# Altium footprint library Portier.PcbLib: 23 footprints (part 1 of 2)
Each footprint in its own frame and in the unit in brackets; x right, y up, seen from the top. Pads: shape width x height; smd on the part's side, far side on the other; paste and mask are expansions set on the pad; w line width, h text height; cw(c..) or ccw(c..) is an arc to the next point about the centre after c.
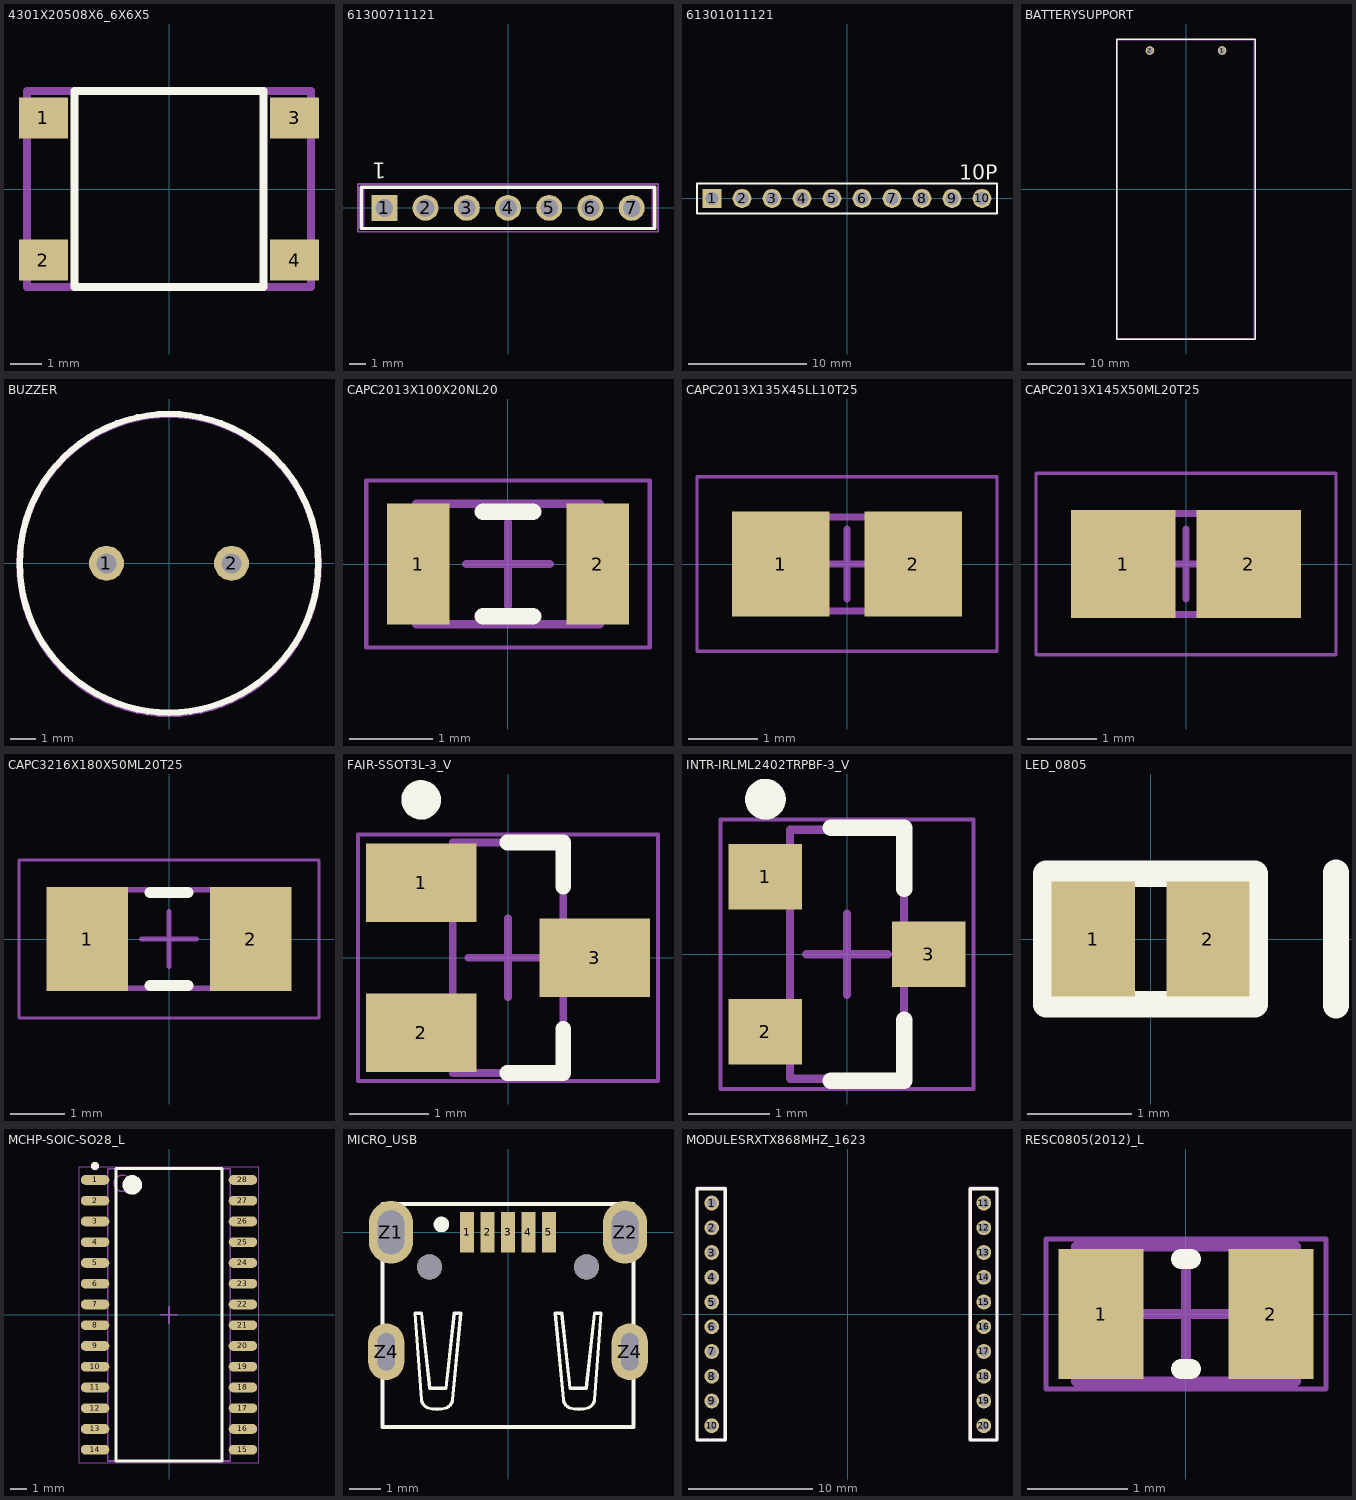
[diagram p0: the footprints below, top view; thin cyan lines are the x and y axes]

## 4301X20508X6_6X6X5 [mm] "6x6mm Tact Switch, SMD version"
height 5
pads (4):
  rect 1.55x1.3 smd: 1(-3.975,2.25) 2(-3.975,-2.25) 3(3.975,2.25) 4(3.975,-2.25)
Top Overlay:
  lines w0.254: -3,-3.1 -3,3.1 3,3.1 3,-3.1 -3,-3.1
Mechanical 13:
  lines w0.254: -4.5,-3.1 4.5,-3.1 4.5,3.1 -4.5,3.1 -4.5,-3.1
3D body "4301x20508x6.stp": height 5.02, standoff 0.02, extent -4.5,-3.1 4.5,3.1

## 61300711121 [mm] "Pin Header, pitch 2.54 mm, THT, Vertical, single row, 7p"
height 8.54
pads (7):
  rect 1.6x1.6 hole 1.1: 1(-7.62,0)
  round 1.6 hole 1.1: 2(-5.08,0) 3(-2.54,0) 4(0,0) 5(2.54,0) 6(5.08,0) 7(7.62,0)
Top Overlay:
  lines w0.2: -9.04,-1.27 -9.04,1.27 9.04,1.27 9.04,-1.27 -9.04,-1.27
  text "1" at -7.493,2.794 h1
Mechanical 11:
  lines w0.1: -8.89,-1.27 8.89,-1.27 8.89,1.27 -8.89,1.27 -8.89,-1.27
Mechanical 13:
  lines w0.1: -9.04,-1.27 -9.04,1.27 9.04,1.27 9.04,-1.27 -9.04,-1.27
Mechanical 15:
  lines w0.1: -0.5,0 0.5,0 ; 0,-0.5 0,0.5 ; -9.24,-1.47 -9.24,1.47 9.24,1.47 9.24,-1.47 -9.24,-1.47
3D body "61300711121.stp": height 8.57, standoff -2.97, extent -8.89,-1.27 8.89,1.27

## 61301011121 [mm] "10 pins, 1 row, straight, gold plating"
height 8.54
pads (10):
  rect 1.6x1.6 hole 1.1: 1(-11.43,0)
  round 1.6 hole 1.1: 2(-8.89,0) 3(-6.35,0) 4(-3.81,0) 5(-1.27,0) 6(1.27,0) 7(3.81,0) 8(6.35,0) 9(8.89,0) 10(11.43,0)
Top Overlay:
  lines w0.2: -12.7,-1.27 -12.7,1.27 12.7,1.27 12.7,-1.27 -12.7,-1.27
  text "10P" at 9.5,1.6 h1.27
3D body "61301011121.stp": height 8.57, standoff -2.97, extent -12.7,-1.27 12.7,1.27

## BATTERYSUPPORT [mm] "Battery Support 2 x 1.5V type AAA"
height 3.5
pads (2):
  round 1.5 hole 1: 1(6.25,24) 2(-6.25,24)
Top Overlay:
  lines w0.254: -12,-26 12,-26 12,26 -12,26 -12,-26
Mechanical 13:
  lines w0.2: -11.938,-25.908 -11.938,25.908 11.811,25.908 11.811,-25.908 -11.938,-25.908
3D body: height 13, standoff 0, extent -12,-26 12,25.908

## BUZZER [mm] "Buzzer d_12mm"
height 3.5
pads (2):
  round 1.4 hole 0.8: 1(-2.5,0) 2(2.5,0)
Top Overlay:
  circle w0.254: c0,0 r5.969
Mechanical 13:
  circle w0.254: c0,-0.047 r5.978
3D body: height 6.5, standoff 0.5, extent -5.969,-5.715 5.969,5.715

## CAPC2013X100X20NL20 [mm] "Chip Capacitor, 2-Leads, Body 2.2x1.45mm, IPC Medium Density"
height 1
pads (2):
  rect 0.75x1.45 smd: 1(-1.075,0) 2(1.075,0)
Top Overlay:
  lines w0.2: -0.3,-0.625 0.3,-0.625 ; -0.3,0.625 0.3,0.625
Mechanical 13:
  lines w0.1: -1.1,-0.725 -1.1,0.725 1.1,0.725 1.1,-0.725 -1.1,-0.725
Mechanical 15:
  lines w0.05: -1.7,-1 -1.7,1 1.7,1 1.7,-1 -1.7,-1
  lines w0.1: -0.5,0 0.5,0 ; 0,-0.5 0,0.5
3D body "CAPC2012X10N.step": height 1, standoff 0, extent -1.1,-0.725 1.1,0.725

## CAPC2013X135X45LL10T25 [mm] "Chip Capacitor, 2-Leads, Body 2.10x1.35mm, IPC High Density"
height 1.35
pads (2):
  rect 1.4x1.5 smd: 1(-0.95,0) 2(0.95,0)
Mechanical 13:
  lines w0.1: -1.05,-0.675 -1.05,0.675 1.05,0.675 1.05,-0.675 -1.05,-0.675
Mechanical 15:
  lines w0.05: -2.15,-1.25 -2.15,1.25 2.15,1.25 2.15,-1.25 -2.15,-1.25
  lines w0.1: -0.5,0 0.5,0 ; 0,-0.5 0,0.5
3D body "CAPC2012X14M.step": height 1.35, standoff 0, extent -1.05,-0.675 1.05,0.675

## CAPC2013X145X50ML20T25 [mm] "Chip Capacitor, 2-Leads, Body 2.00x1.25mm, IPC Low Density"
height 1.45
pads (2):
  rect 1.5x1.55 smd: 1(-0.9,0) 2(0.9,0)
Mechanical 13:
  lines w0.1: -1.1,-0.725 -1.1,0.725 1.1,0.725 1.1,-0.725 -1.1,-0.725
Mechanical 15:
  lines w0.05: -2.15,-1.3 -2.15,1.3 2.15,1.3 2.15,-1.3 -2.15,-1.3
  lines w0.1: -0.5,0 0.5,0 ; 0,-0.5 0,0.5
3D body: height 1.45, standoff 0, extent -1.1,-0.725 -0.6,0.725
3D body: height 1.45, standoff 0, extent 0.6,-0.725 1.1,0.725
3D body: height 1.45, standoff 0, extent -0.6,-0.725 0.6,0.725

## CAPC3216X180X50ML20T25 [mm] "Chip Capacitor, 2-Leads, Body 3.40x1.80mm, IPC Low Density"
height 1.8
pads (2):
  rect 1.5x1.9 smd: 1(-1.5,0) 2(1.5,0)
Top Overlay:
  lines w0.2: -0.35,-0.85 0.35,-0.85 ; -0.35,0.85 0.35,0.85
Mechanical 13:
  lines w0.1: -1.7,-0.9 1.7,-0.9 1.7,0.9 -1.7,0.9 -1.7,-0.9
Mechanical 15:
  lines w0.05: -2.75,-1.45 2.75,-1.45 2.75,1.45 -2.75,1.45 -2.75,-1.45
  lines w0.1: -0.5,0 0.5,0 ; 0,-0.5 0,0.5
3D body: height 1.8, standoff 0, extent 1.2,-0.9 1.7,0.9
3D body: height 1.8, standoff 0, extent -1.2,-0.9 1.2,0.9
3D body: height 1.8, standoff 0, extent -1.7,-0.9 -1.2,0.9

## FAIR-SSOT3L-3_V [mm] "SOT23, 3-Leads, Body 2.92x1.4mm, Pitch 0.95mm"
height 1.12
pads (3):
  rect 1.4x1 smd: 1(-1.1,0.95) 2(-1.1,-0.95) 3(1.1,0)
Top Overlay:
  circle w0.25: c-1.1,2 r0.125
  lines w0.2: -0.006,-1.46 0.7,-1.46 0.7,-0.9 ; -0.006,1.46 0.7,1.46 0.7,0.9
Mechanical 13:
  lines w0.1: -0.7,-1.46 -0.7,1.46 0.7,1.46 0.7,-1.46 -0.7,-1.46
Mechanical 15:
  lines w0.05: -1.9,-1.56 1.9,-1.56 1.9,1.56 -1.9,1.56 -1.9,-1.56
  lines w0.1: -0.5,0 0.5,0 ; 0,-0.5 0,0.5
3D body "FAIR-SSOT3L-3_V.stp": height 1.12, standoff 0, extent -1.26,-1.46 1.26,1.46

## INTR-IRLML2402TRPBF-3_V [mm] "SOT23, 3-Leads, Body 3.05x1.4mm, Pitch 0.95mm"
height 1.11
pads (3):
  rect 0.9x0.8 smd: 1(-1,0.95) 2(-1,-0.95) 3(1,0)
Top Overlay:
  circle w0.25: c-1,1.9 r0.125
  lines w0.2: -0.2,-1.55 0.7,-1.55 0.7,-0.8 ; -0.2,1.55 0.7,1.55 0.7,0.8
Mechanical 13:
  lines w0.1: -0.7,-1.525 0.7,-1.525 0.7,1.525 -0.7,1.525 -0.7,-1.525
Mechanical 15:
  lines w0.05: -1.55,-1.65 1.55,-1.65 1.55,1.65 -1.55,1.65 -1.55,-1.65
  lines w0.1: -0.5,0 0.5,0 ; 0,-0.5 0,0.5
3D body: height 1.11, standoff 0.02, extent -0.7,-1.525 0.7,1.525

## LED_0805 [mm] "LED_0805"
height 3.5
pads (2):
  rect 0.8x1.1 smd: 1(-0.55,0) 2(0.55,0)
Top Overlay:
  lines w0.254: 1.778,-0.635 1.778,0.635 ; -1,-0.625 1,-0.625 1,0.625 -1,0.625 -1,-0.625
Mechanical 13:
  lines w0.2: -1.016,-0.635 1.016,-0.635 1.016,0.635 -1.016,0.635 -1.016,-0.635
3D body: height 1.25, standoff 0, extent -1.016,-0.635 1.016,0.635

## MCHP-SOIC-SO28_L [mm] "SOIC, 28-Leads, Body 17.9x7.5mm, Pitch 1.27mm, IPC High Density"
height 2.65
pads (28):
  oval 1.75x0.6 smd: 1(-4.525,8.255) 2(-4.525,6.985) 3(-4.525,5.715) 4(-4.525,4.445) 5(-4.525,3.175) 6(-4.525,1.905) 7(-4.525,0.635) 8(-4.525,-0.635) 9(-4.525,-1.905) 10(-4.525,-3.175) 11(-4.525,-4.445) 12(-4.525,-5.715) 13(-4.525,-6.985) 14(-4.525,-8.255) 15(4.525,-8.255) 16(4.525,-6.985) 17(4.525,-5.715) 18(4.525,-4.445) 19(4.525,-3.175) 20(4.525,-1.905) 21(4.525,-0.635) 22(4.525,0.635) 23(4.525,1.905) 24(4.525,3.175) 25(4.525,4.445) 26(4.525,5.715) 27(4.525,6.985) 28(4.525,8.255)
Top Overlay:
  circle w0.25: c-4.525,9.105 r0.125
  circle w0.6: c-2.25,7.95 r0.3
  lines w0.2: -3.25,-8.95 -3.25,8.95 3.25,8.95 3.25,-8.95 -3.25,-8.95
Mechanical 13:
  circle w0.1: c-2.85,8.05 r0.5
  lines w0.1: -3.75,-8.95 -3.75,8.95 3.75,8.95 3.75,-8.95 -3.75,-8.95
Mechanical 15:
  lines w0.05: -5.5,-9.05 -5.5,9.05 5.5,9.05 5.5,-9.05 -5.5,-9.05
  lines w0.1: -0.5,0 0.5,0 ; 0,-0.5 0,0.5
3D body: height 2.65, standoff 0.1, extent -3.75,-8.95 3.75,8.95

## MICRO_USB [mm] "WR-COM_USB_Micro Type B_Horizontal_SMT Micro Type B Horizontal SMT - 3A current at Pin1 & Pin 5 - with Pegs and THT shielding Pins  - T&R Packaging"
height 2.6
pads (11):
  rect 0.45x1.3 smd: 1(-1.3,0) 2(-0.65,0) 3(0,0) 4(0.65,0) 5(1.3,0)
  oval 1.4x2 hole 0.85 slot 1.4 at 90 deg: Z1(-3.725,0) Z2(3.725,0)
  oval 1.15x1.8 hole 0.55 slot 1.2 at 90 deg: Z4(-3.875,-3.8) Z4(3.875,-3.8)
  round 0.8 hole 0.8 unplated: ""(-2.5,-1.1) ""(2.5,-1.1)
Top Overlay:
  circle w0.254: c-2.12,0.25 r0.12
  lines w0.102: -2.751,-5.328 -2.959,-2.577 -2.751,-2.577 -2.492,-4.965 -1.973,-4.965 -1.713,-2.577 -1.505,-2.577 -1.765,-5.328 ; -2.751,-5.328 ccw(c-2.457,-5.306) -2.544,-5.588 ccw(c-2.258,-4.657) -1.973,-5.588 ccw(c-2.059,-5.306) -1.765,-5.328 ; 1.765,-5.328 1.505,-2.577 1.713,-2.577 1.973,-4.965 2.492,-4.965 2.751,-2.577 2.959,-2.577 2.751,-5.328 ; 1.765,-5.328 ccw(c2.059,-5.306) 1.973,-5.588 ccw(c2.258,-4.657) 2.544,-5.588 ccw(c2.457,-5.306) 2.751,-5.328
  lines w0.127: -4,-6.2 4,-6.2 4,0.9 -4,0.9 -4,-6.2
3D body "629105150521.stp": height 2.67, standoff -0.89, extent -4.001,-6.25 3.999,0.353

## MODULESRXTX868MHZ_1623 [mm] "Header"
height 9
pads (20):
  round 1.2 hole 0.8: 1(-11,9) 2(-11,7) 3(-11,5) 4(-11,3) 5(-11,1) 6(-11,-1) 7(-11,-3) 8(-11,-5) 9(-11,-7) 10(-11,-9) 11(11,9) 12(11,7) 13(11,5) 14(11,3) 15(11,1) 16(11,-1) 17(11,-3) 18(11,-5) 19(11,-7) 20(11,-9)
Top Overlay:
  lines w0.254: -12.192,-10.16 -9.906,-10.16 -9.906,10.16 -10.922,10.16 -12.192,10.16 -12.192,-10.16 ; 9.906,-10.16 12.065,-10.16 12.065,10.16 9.906,10.16 9.906,-10.16
Mechanical 13:
  lines w0.254: -12.192,-10.16 -9.906,-10.16 -9.906,10.224 -12.192,10.224 -12.192,-10.16 ; 9.906,-10.16 12.065,-10.16 12.065,10.224 9.906,10.224 9.906,-10.16
3D body: height 6, standoff 0, extent -12.065,-10.224 -10.033,10.16
3D body: height 6, standoff 0, extent 10.033,-10.224 12.065,10.16
3D body: height 7.55, standoff 6, extent -12.7,-10.5 12.7,31.9

## RESC0805(2012)_L [mm] "Chip Resistor, Body 2.0x1.3mm, IPC High Density"
height 0.7
pads (2):
  rect 0.85x1.3 smd: 1(-0.85,0) 2(0.85,0)
Top Overlay:
  lines w0.2: -0.05,-0.55 0.05,-0.55 ; -0.05,0.55 0.05,0.55
Mechanical 13:
  lines w0.1: -1.1,-0.675 -1.1,0.675 1.1,0.675 1.1,-0.675 -1.1,-0.675
Mechanical 15:
  lines w0.05: -1.4,-0.75 -1.4,0.75 1.4,0.75 1.4,-0.75 -1.4,-0.75
  lines w0.1: -0.5,0 0.5,0 ; 0,-0.5 0,0.5
3D body: height 0.7, standoff 0, extent -1.1,-0.675 -0.68,0.675
3D body: height 0.7, standoff 0, extent -0.68,-0.675 0.68,0.675
3D body: height 0.7, standoff 0, extent 0.68,-0.675 1.1,0.675